# Altium schematic symbol library LDL212PV33R.Schlib: 1 symbol
Pins are listed as number, name and electrical type; pins without a type are passive.

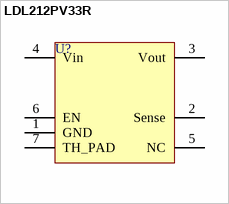
[diagram p0: symbol LDL212PV33R]

## LDL212PV33R
designator U?
Linear Voltage Regulator IC 1 Output 1.2A 6-DFN (2x2)
pins: 1 GND, 2 Sense, 3 Vout, 4 Vin, 5 NC, 6 EN, 7 TH_PAD